# EAGLE library part RASPI-40 (library PiHeader)
Raspberry Pi 40 pin header
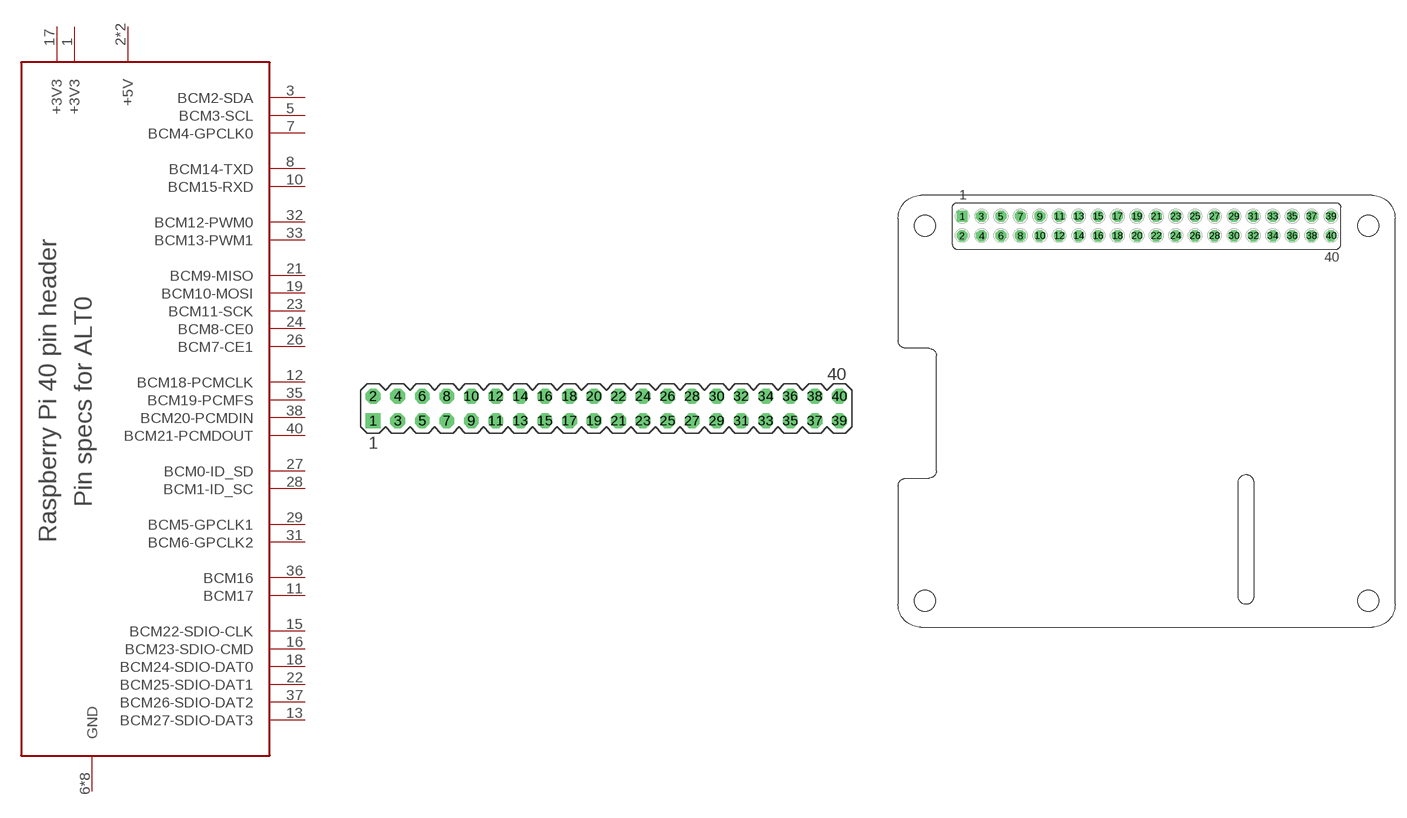
[diagram p0: symbol with the pads of MA20-2; footprints MA20-2, FE20-2]

Designator prefix J

## RASPI-40  [MA20-2]
1  +3V3
2  +5V
3  BCM2-SDA
4  +5V
5  BCM3-SCL
6  GND
7  BCM4-GPCLK0
8  BCM14-TXD
9  GND
10  BCM15-RXD
11  BCM17
12  BCM18-PCMCLK
13  BCM27-SDIO-DAT3
14  GND
15  BCM22-SDIO-CLK
16  BCM23-SDIO-CMD
17  +3V3
18  BCM24-SDIO-DAT0
19  BCM10-MOSI
20  GND
21  BCM9-MISO
22  BCM25-SDIO-DAT1
23  BCM11-SCK
24  BCM8-CE0
25  GND
26  BCM7-CE1
27  BCM0-ID_SD
28  BCM1-ID_SC
29  BCM5-GPCLK1
30  GND
31  BCM6-GPCLK2
32  BCM12-PWM0
33  BCM13-PWM1
34  GND
35  BCM19-PCMFS
36  BCM16
37  BCM26-SDIO-DAT2
38  BCM20-PCMDIN
39  GND
40  BCM21-PCMDOUT

## RASPI-40HAT  [FE20-2]
Pads as for MA20-2

## Footprint MA20-2 (pad centres in mm)
PIN HEADER
drill 1.016 square: 1 -24.13,-1.27
drill 1.016 octagon: 2 -24.13,1.27; 3 -21.59,-1.27; 4 -21.59,1.27; 5 -19.05,-1.27; 6 -19.05,1.27; 7 -16.51,-1.27; 8 -16.51,1.27; 9 -13.97,-1.27; 10 -13.97,1.27; 11 -11.43,-1.27; 12 -11.43,1.27; 13 -8.89,-1.27; 14 -8.89,1.27; 15 -6.35,-1.27; 16 -6.35,1.27; 17 -3.81,-1.27; 18 -3.81,1.27; 19 -1.27,-1.27; 20 -1.27,1.27; 21 1.27,-1.27; 22 1.27,1.27; 23 3.81,-1.27; 24 3.81,1.27; 25 6.35,-1.27; 26 6.35,1.27; 27 8.89,-1.27; 28 8.89,1.27; 29 11.43,-1.27; 30 11.43,1.27; 31 13.97,-1.27; 32 13.97,1.27; 33 16.51,-1.27; 34 16.51,1.27; 35 19.05,-1.27; 36 19.05,1.27; 37 21.59,-1.27; 38 21.59,1.27; 39 24.13,-1.27; 40 24.13,1.27

## Footprint FE20-2 (pad centres in mm)
FEMALE HEADER
drill 0.914 square: 1 -24.13,1.27
drill 0.914 octagon: 2 -24.13,-1.27; 3 -21.59,1.27; 4 -21.59,-1.27; 5 -19.05,1.27; 6 -19.05,-1.27; 7 -16.51,1.27; 8 -16.51,-1.27; 9 -13.97,1.27; 10 -13.97,-1.27; 11 -11.43,1.27; 12 -11.43,-1.27; 13 -8.89,1.27; 14 -8.89,-1.27; 15 -6.35,1.27; 16 -6.35,-1.27; 17 -3.81,1.27; 18 -3.81,-1.27; 19 -1.27,1.27; 20 -1.27,-1.27; 21 1.27,1.27; 22 1.27,-1.27; 23 3.81,1.27; 24 3.81,-1.27; 25 6.35,1.27; 26 6.35,-1.27; 27 8.89,1.27; 28 8.89,-1.27; 29 11.43,1.27; 30 11.43,-1.27; 31 13.97,1.27; 32 13.97,-1.27; 33 16.51,1.27; 34 16.51,-1.27; 35 19.05,1.27; 36 19.05,-1.27; 37 21.59,1.27; 38 21.59,-1.27; 39 24.13,1.27; 40 24.13,-1.27
hole 2.75 at -29,0
hole 2.75 at 29,0
hole 2.75 at -29,-49
hole 2.75 at 29,-49